# Altium integrated library ASFLMB-72.000MHZ-XY-T.IntLib: 1 symbol
Pins are listed as number, name and electrical type; pins without a type are passive.

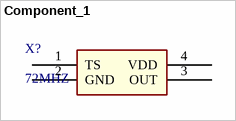
[diagram p0: symbol Component_1]

## Component_1
designator X?, comment 72MHZ
mf_part no.: ASFLMB-72.000MHZ-XY-T; Manufactured by: ABRACON
footprint OSCSC320X250X100N
pins: 1 TS, 2 GND, 3 OUT, 4 VDD